# Altium schematic symbol library Schlib_Internship.SchLib: 21 symbols
Pins are listed as number, name and electrical type; pins without a type are passive.

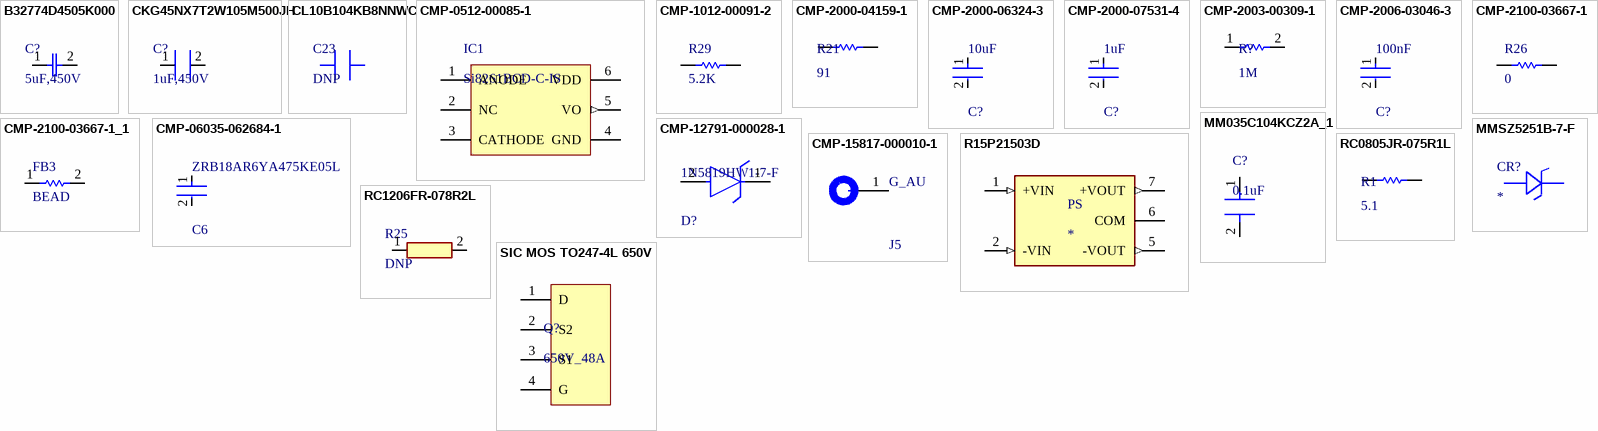
[diagram p0: symbols B32774D4505K000 to SIC MOS TO247-4L 650V]

## B32774D4505K000
designator C?, comment 5uF,450V
5 µF Film Capacitor 450V Polypropylene (PP), Metallized Radial; Mfr_Name: TDK; Digi-Key_Part_Number_1: 495-4828-ND
footprint CAP_B32774D4505K000_TDK
pins: 1, 2

## CKG45NX7T2W105M500JH
designator C?, comment 1uF,450V
1 µF ±20% 450V Ceramic Capacitor X7T Stacked SMD, 2 J-Lead; Mfr_Name: TDK; Digi-Key_Part_Number_3: 445-7100-6-ND; Digi-Key_Part_Number_2: 445-7100-2-ND; Digi-Key_Part_Number_1: 445-7100-1-ND
footprint CAP_5035_TDK
pins: 1, 2

## CL10B104KB8NNWC
designator C23, comment DNP
0.1 µF ±10% 50V Ceramic Capacitor X7R 0603 (1608 Metric); Mfr_Name: Samsung; Digi-Key_Part_Number_3: 1276-1935-6-ND; Digi-Key_Part_Number_2: 1276-1935-1-ND; Digi-Key_Part_Number_1: 1276-1935-2-ND
footprint CAP_CL10_SAM
pins: 1, 2

## CMP-0512-00085-1
designator IC1, comment Si8261BCD-C-IS
Led Emulator Input, 4.0 A Isolated Gate Drivers, 5 to 30 V Driver Supply, 5 kVRMS Isolation Rating, -40 to 125 degC, 6-pin SOP; Manufacturer: Silicon Labs; 10kV surge: TRUE; UVLO Voltage: 12 V; Overlap Protection & Dead Time Control: FALSE; Driver Supply: 5 to 30 V; Max. Prop. Delay (ns): 60; Isolation Rating (Input-Output, kVrms): 5; Sub-Family: ISOdrivers; ComponentLink1Description: Manufacturer URL; ComponentLink3URL: http://www.silabs.com/Support%20Documents/TechnicalDocs/Si826x.pdf; ComponentLink2URL: http://www.silabs.com/Support%20Documents/TechnicalDocs/Si826x.pdf; ComponentLink2Description: Datasheet; ComponentLink3Description: Package Specification; PartNumber: Si8261BCD-C-IS; ComponentLink1URL: http://www.silabs.com/; PackageDescription: 6-Pin SDIP, Body 4.58 x 7.5 mm, Pitch 1.27 mm; Mounting Technology: Surface Mount; DatasheetVersion: Rev. 0.9; PackageReference: SDIP6
footprint SLAB-SDIP6_L (SOP, 6-Leads, Body 7.5x4.58mm, Pitch 1.27mm, IPC High Density)
pins: 1 ANODE "Anode of LED emulator. VO follows the signal applied to this input with respect to the CATHODE input.", 2 NC "No connect.", 3 CATHODE "Cathode of LED emulator. VO follows the signal applied to ANODE with respect to this input.", 4 GND (power) "External MOSFET source connection and ground reference for VDD. This terminal is typically connected to ground but may be tied to a negative or positive voltage.", 5 VO (out) "Output signal.", 6 VDD (power) "Output-side power supply input referenced to GND (30 V max)."

## CMP-1012-00091-2
designator R29, comment 5.2K
Chip Resistor, 5.1 KOhm, +/- 5%, 0.1 W, -55 to 155 degC, 0603 (1608 Metric), RoHS, Tape and Reel; Manufacturer: Yageo; Resistance: 5.1kOhms; Voltage Rating: 50V; Temperature Coefficient: 100PPM/C; Power Rating: 100mW; Mounting Technology: SurfaceMount; Case Code - in: 0603; Product: ThickFilmResistorsGeneralPurpose; Series: RC; Packaging: Reel; Tolerance: 5%; Operating Temperature Range: -55Cto+155C; Package Description: 2-Pin Surface Mount Device, Body 1.6 x 0.8 mm; Manufacturer URL: http://www.yageo.com/; Datasheet Version: Rev. 7, 05/2017; Termination Style: SMD/SMT; Package Reference: 0603; Datasheet URL: http://www.yageo.com/documents/recent/PYu-RC_Group_51_RoHS_L_7.pdf; Case Code - mm: 1608
footprint RESC1608X55X25LL10T15 (Chip Resistor, 2-Leads, Body 1.70x0.90mm, IPC High Density)
pins: 1, 2

## CMP-2000-04159-1
designator R21, comment 91
91 Ohms ±1% 0.1W, 1/10W Chip Resistor 0603 (1608 Metric) Moisture Resistant Thick Film; Manufacturer: Yageo; Part Number: RC0603FR-0791RL
footprint RESC1608X55X25LL10T15 (Chip Resistor, 2-Leads, Body 1.70x0.90mm, IPC High Density)
pins: 1, 2
1 alternate drawing of the same symbol

## CMP-2000-06324-3
designator C?, comment 10uF
10 µF ±10% 35V Ceramic Capacitor X7R 1206 (3216 Metric); Thickness: 0.071inch; Mount: Surface Mount; Case Code (Imperial): 1206; Voltage Rating (DC): 35V; RoHS Compliant: Yes; Voltage Rating: 35V; Capacitance: 10uF; Case Code (Metric): 3216; Tolerance: 10%; Height: 1.6mm; Packaging: Tape and Reel; Resistor Type: Ceramic; REACH SVHC: No SVHC; Max Operating Temperature: 125°C; Termination: SMD/SMT; Package Quantity: 2000; Width: 1.6mm; Case/Package: 1206; Length: 0.126inch; Series: M; Dielectric: X7R; Min Operating Temperature: -55°C
footprint FP-1206-L_3_2_0_2-W_1_6_0-IPC_A
pins: 1, 2

## CMP-2000-07531-4
designator C?, comment 1uF
Ceramic Capacitor General Use 1uF ±10% 50V X7R 0603; Series: M; Width: 0.031inch; Mount: Surface Mount; Radiation Hardening: No; Voltage Rating (DC): 50V; Packaging: Tape and Reel; Termination: SMD/SMT; Depth: 0.8mm; Case Code (Metric): 1608; Case Code (Imperial): 0603; Height: 0.8mm; Voltage Rating: 50V; Package Quantity: 1; Halogen Free: Halogen Free; Dielectric: X7R; Min Operating Temperature: -55°C; Length: 1.6mm; Construction: Flat; Tolerance: 10%; Thickness: 0.037inch; Max Operating Temperature: 125°C; Case/Package: 0603; Capacitance: 1uF; RoHS Compliant: Yes
footprint FP-0603-L_1_6_0_15-W_0_8-IPC_A
pins: 1, 2

## CMP-2003-00309-1
designator R?, comment 1M
Thick Film Resistors - SMD 1206 1Mohms 1% Tol AEC-Q200; Manufacturer: Panasonic; Part Number: ERJ-8ENF3321V
footprint RESC3216X70X50LL05T20 (Chip Resistor, 2-Leads, Body 3.20x1.60mm, IPC High Density)
pins: 1, 2
1 alternate drawing of the same symbol

## CMP-2006-03046-3
designator C?, comment 100nF
CAP CER 10000PF 50V X7R 0603; Manufacturer: KEMET; Manufacturer Part Number: C0603C103K5RACTU; Temperature Coefficient: 30ppm/°C; Capacitance: 10,000 pF; Automotive Grade: Grade 1; Material: Ceramic; Value: 10,000 pF; Tolerance: 0.1; Voltage Rating: 50 V; Digikey Description: CAP CER 10000PF 50V X7R 0603; ComponentLink2Description: Datasheet; Mouser Description: Ceramic Capacitor 0.01Uf, 50V, X7R, 10%, 0603, Full Reel; ComponentLink2URL: https://api.kemet.com/component-edge/download/datasheet/C0603C100J5GACAUTO.pdf; Package: C0603C-CF; RoHS: TRUE; Octopart: https://octopart.com/c0603c103k5ractu-kemet-133094; Device Class L1: Passive Components; Temperature Range Low: -55°C; Automotive: Yes; Category: Cap; Lead Free: Yes; Temperature: -55°C to +125°C; Temperature Range High: +125°C; Temperature Characteristic: X7R; Height: 0.87mm; Device Class L3: Ceramic Capacitors; Device Class L2: Capacitors
footprint FP-C0603C-CF-IPC_A
pins: 1, 2

## CMP-2100-03667-1
designator R26, comment 0
Chip Resistor, 0 Ohm, +/- 5%, 0.1 W, -55 to 155 degC, 0603 (1608 Metric), RoHS, Tape and Reel; Manufacturer: Yageo; Temperature Coefficient: 200ppm/degreesC; Voltage Rating: 50V; Power Rating: 100mW; Resistance: 0mOhm; Width: 0.8mm; Max Operating Temperature: 155degC; Tolerance: 5%; Package Reference: 0603; Height: 0.45mm; Depth: 0.8mm; Package Description: 2-Pin Surface Mount Device, Body 1.6 x 0.8 mm; Termination: SMD/SMT; Package Quantity: 5000; Case/Package: 0603; Case Code (Imperial): 0603; Radiation Hardening: No; Number of Pins: 2; Length: 1.6mm; Lead Free: LeadFree; Voltage Rating (DC): 50V; Military Standard: Not; Datasheet URL: http://www.yageo.com/NewPortal/yageodocoutput?fileName=/pdf/R-Chip/PYu-RC_Group_51_RoHS_L_5.pdf; Manufacturer URL: http://www.yageo.com/; Packaging: TapeandReel; Case Code (Metric): 1608; Min Operating Temperature: -55degC; Composition: ThickFilm; RoHSCompliant: true; Contact Plating: Tin; Datasheet Version: Rev. 5, 10/2016; REACH SVHC: NoSVHC
footprint RESC1608X55X25LL10T15 (Chip Resistor, 2-Leads, Body 1.70x0.90mm, IPC High Density)
pins: 1, 2

## CMP-2100-03667-1_1
designator FB3, comment BEAD
Chip Resistor, 0 Ohm, +/- 5%, 0.1 W, -55 to 155 degC, 0603 (1608 Metric), RoHS, Tape and Reel; Manufacturer: Yageo; Temperature Coefficient: 200ppm/degreesC; Voltage Rating: 50V; Power Rating: 100mW; Resistance: 0mOhm; Width: 0.8mm; Max Operating Temperature: 155degC; Tolerance: 5%; Package Reference: 0603; Height: 0.45mm; Depth: 0.8mm; Package Description: 2-Pin Surface Mount Device, Body 1.6 x 0.8 mm; Termination: SMD/SMT; Package Quantity: 5000; Case/Package: 0603; Case Code (Imperial): 0603; Radiation Hardening: No; Number of Pins: 2; Length: 1.6mm; Lead Free: LeadFree; Voltage Rating (DC): 50V; Military Standard: Not; Datasheet URL: http://www.yageo.com/NewPortal/yageodocoutput?fileName=/pdf/R-Chip/PYu-RC_Group_51_RoHS_L_5.pdf; Manufacturer URL: http://www.yageo.com/; Packaging: TapeandReel; Case Code (Metric): 1608; Min Operating Temperature: -55degC; Composition: ThickFilm; RoHSCompliant: true; Contact Plating: Tin; Datasheet Version: Rev. 5, 10/2016; REACH SVHC: NoSVHC
footprint RESC1608X55X25LL10T15 (Chip Resistor, 2-Leads, Body 1.70x0.90mm, IPC High Density)
pins: 1, 2

## CMP-06035-062684-1
designator C6, comment ZRB18AR6YA475KE05L
CAP CER 4.7UF 35V X5R 0603; Tolerance: 10%; Voltage Rating: 35V; Voltage Rating (DC): 35V; Mount: Surface Mount; Case Code (Metric): 1608; RoHS Compliant: Yes; Packaging: Cut Tape; Width: 0.031inch; Thickness: 0.047inch; Dielectric: X5R; Case/Package: 0603; Length: 0.063inch; REACH SVHC: No SVHC; Capacitance: 4.7uF; Min Operating Temperature: -55°C; Max Operating Temperature: 85°C; Case Code (Imperial): 0603
footprint FP-ZRB18A-0_2-MFG - duplicate
pins: 1, 2

## CMP-12791-000028-1
designator D?, comment 1N5819HW1-7-F
DIODE SBR 40V 1A SOD123F; Manufacturer: Diodes Inc.; Max Junction Temp: +125°C; Capacitance: 30pF; Value: 30pF; Peak Reverse Current: 0.5mA; Max Surge Forward Current: 30A; ComponentLink2Description: Datasheet; Temperature: -55°C to +125°C; Lead Free: Yes; Package: SOD123F (Type B); Reverse Voltage: 40V; Device Class L2: Diodes; Manufacturer Part Number: 1N5819HW1-7-F; ComponentLink2URL: https://www.diodes.com/assets/Datasheets/1N5819HW1.pdf; Automotive: No; RoHS: TRUE; Height: 1.15mm; Digikey Description: DIODE SBR 40V 1A SOD123F; Max Repetitive Reverse Voltage: 40V; Forward Current: 1A; Footprint Url: https://www.diodes.com/assets/Package-Files/SOD123F%20(Type%20B).pdf; Temperature Range High: +125°C; Octopart: https://octopart.com/1n5819hw1-7-f-diodes+inc.-67250096; Mouser Description: Schottky Diodes & Rectifiers 1A SBR 40Vrrm 0.51Vf 0.5mA 28Vrms; Device Class L3: Rectifier Diodes; Ipc Land Pattern Name: SOD350180X98-2; Device Class L1: Discrete Semiconductors; Category: Diode; Temperature Range Low: -55°C
footprint FP-SOD123F_Type_B-MFG
pins: 1 C, 2 A

## CMP-15817-000010-1
designator J5, comment G_AU
PC TEST POINT NATURAL; Plating: Tin; Body Material: Brass; Color: Natural; Material: Copper Alloy; Mount: Surface Mount; Packaging: Cut Tape
footprint FP-S2751-46R-MFG
pins: 1

## MM035C104KCZ2A_1
designator C?, comment 0.1uF
0.1 µF ±10% 50V Ceramic Capacitor X7R 0603 (1608 Metric)
footprint CAPC1608X90
pins: 1, 2 8

## MMSZ5251B-7-F
designator CR?
Zener Diode 22 V 500 mW ±5% Surface Mount SOD-123; Mfr_Name: Diodes Inc; Digi-Key_Part_Number_3: MMSZ5251B-FDITR-ND; Digi-Key_Part_Number_2: MMSZ5251B-FDIDKR-ND; Digi-Key_Part_Number_1: MMSZ5251B-FDICT-ND
footprint SOD123_DIO
pins: 1, 2

## R15P21503D
designator PS
2W DC/DC-Converter 'ECONOLINE' SIP7 6.4kV unreg; MP: R15P21503D; MF: Recom Power; Package: SIP-7 Recom Power; Value: *; Digi-Key_Part_Number: 945-3070-5-ND; SnapEDA_Link: https://www.snapeda.com/parts/R15P21503D/Recom%20Power/view-part/3601956/?ref=snap; Check_prices: https://www.snapeda.com/parts/R15P21503D/Recom%20Power/view-part/3601956/?ref=eda
footprint CONV_R15P21503D
pins: 1 +VIN (in), 2 -VIN (in), 5 -VOUT (out), 6 COM (power), 7 +VOUT (out)

## RC0805JR-075R1L
designator R1, comment 5.1
Thick Film Resistors - SMD 5.1 Ohms 125 mW 0805 5%; Part Number: RC0805JR-075R1L; Manufacturer: Yageo
footprint RESC2013X60X35LL10T20 (Chip Resistor, 2-Leads, Body 2.00x1.25mm, IPC High Density)
pins: 1, 2
1 alternate drawing of the same symbol

## RC1206FR-078R2L
designator R25, comment DNP
8.2 Ohms ±1% 0.25W, 1/4W Chip Resistor 1206 (3216 Metric) Moisture Resistant Thick Film; Mfr_Name: Yageo; Digi-Key_Part_Number_3: 311-8.20FRTR-ND; Digi-Key_Part_Number_2: 311-8.20FRDKR-ND; Digi-Key_Part_Number_1: 311-8.20FRCT-ND
footprint RC1206N_YAG
pins: 1, 2

## SIC MOS TO247-4L 650V
designator Q?, comment 650V_48A
N-Channel 650 V 47A (Tc) 176W (Tc) Through Hole TO-247-4L
pins: 1 D, 2 S2, 3 S1, 4 G